# Altium footprint library PowerBank-PCBLIB.PcbLib: 22 footprints (part 1 of 2)
Each footprint in its own frame and in the unit in brackets; x right, y up, seen from the top. Pads: shape width x height; smd on the part's side, far side on the other; paste and mask are expansions set on the pad; w line width, h text height; cw(c..) or ccw(c..) is an arc to the next point about the centre after c.
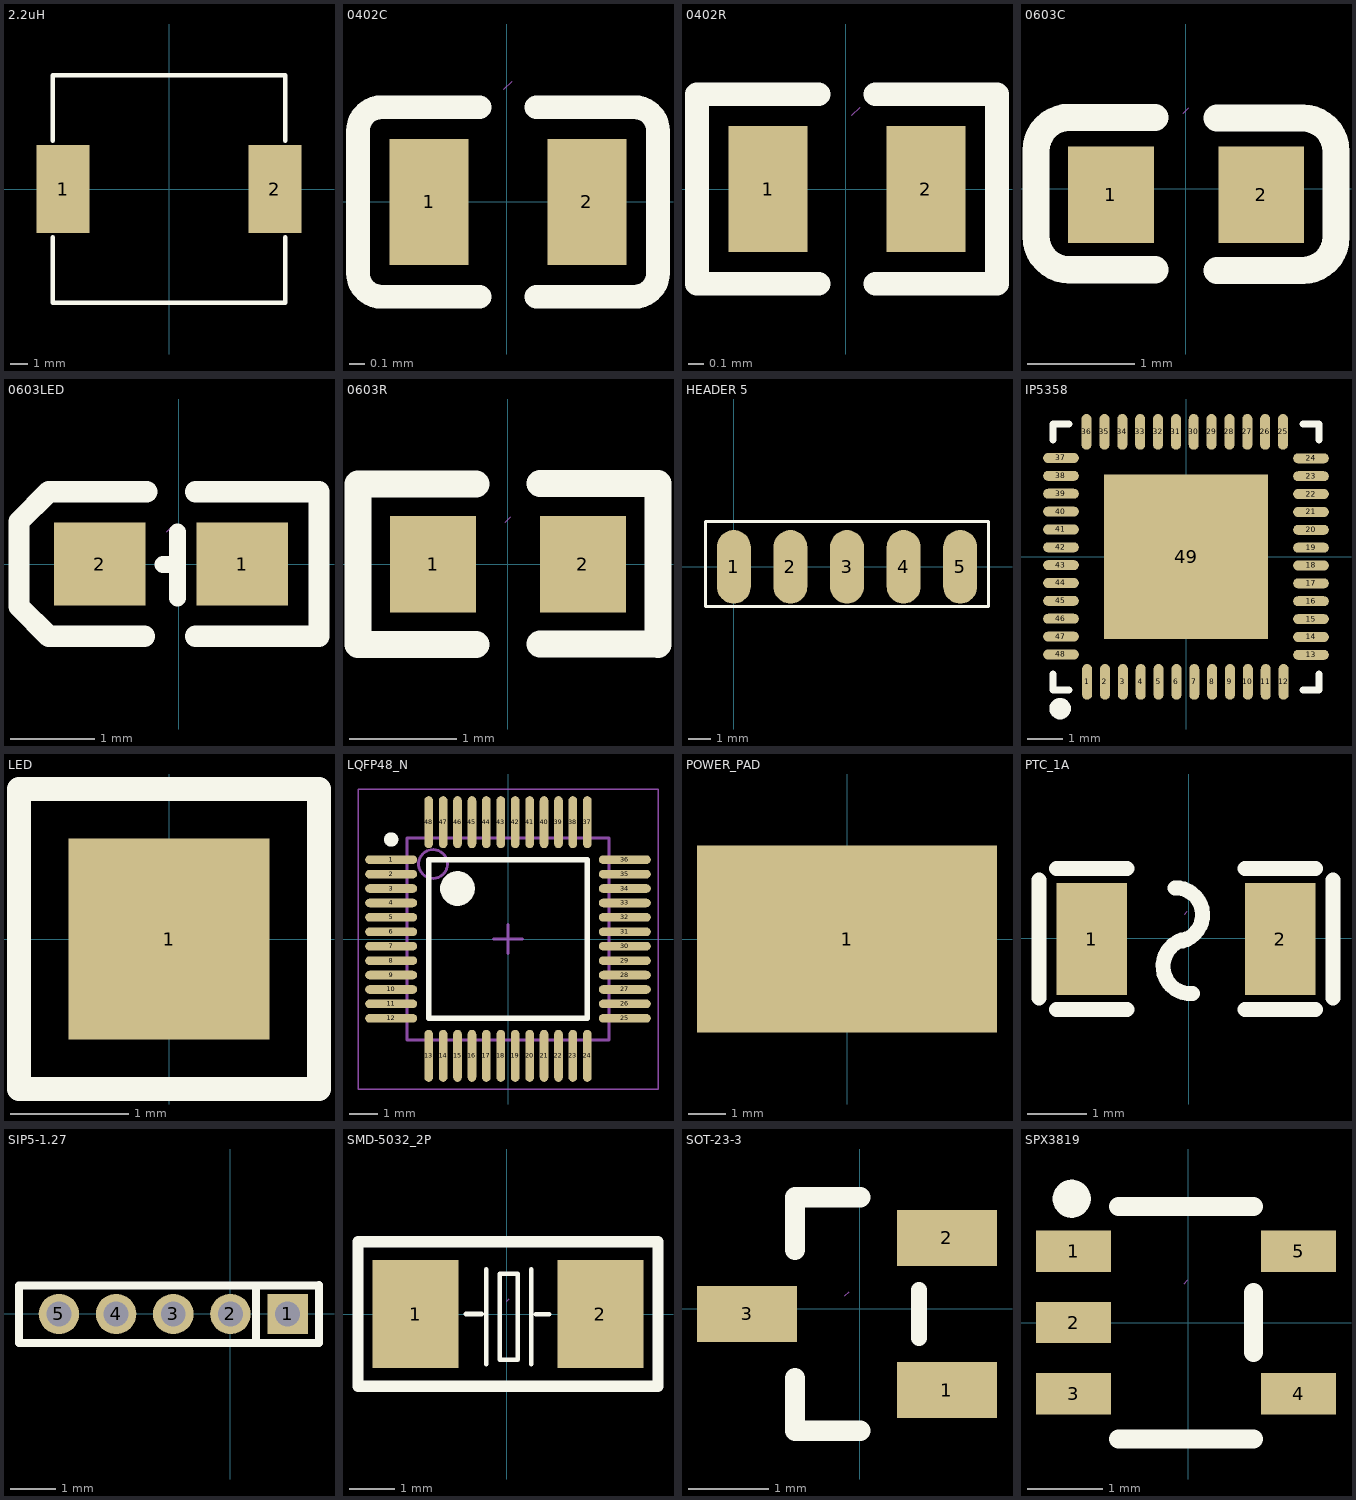
[diagram p0: the footprints below, top view; thin cyan lines are the x and y axes]

## 2.2uH [mm] "SMD"
pads (2):
  rect 3x5 smd: 1(-6,0) 2(6,0)
Top Overlay:
  lines w0.254: -6.6,-2.731 -6.6,-6.45 6.6,-6.45 6.6,-2.731 ; -6.6,2.731 -6.6,6.45 6.6,6.45 6.6,2.731

## 0402C [mm] "0402C"
pads (2):
  rect 0.5x0.8 smd: 1(-0.491,0) 2(0.509,0)
Top Overlay:
  lines w0.15: -0.171,-0.6 -0.791,-0.6 cw(c-0.791,-0.45) -0.941,-0.45 -0.941,-0.4 -0.941,0.4 -0.941,0.45 cw(c-0.791,0.45) -0.791,0.6 -0.171,0.6 ; 0.189,-0.6 0.809,-0.6 ccw(c0.809,-0.45) 0.959,-0.45 0.959,-0.4 0.959,0.4 0.959,0.45 ccw(c0.809,0.45) 0.809,0.6 0.189,0.6
Mechanical 15:
  lines w0.003: -0.016,0.714 0.034,0.764

## 0402R [mm] "0402R"
pads (2):
  rect 0.5x0.8 smd: 1(-0.491,0) 2(0.509,0)
Top Overlay:
  lines w0.15: -0.171,-0.6 -0.941,-0.6 -0.941,0.6 -0.171,0.6 ; 0.189,-0.6 0.959,-0.6 0.959,0.6 0.189,0.6
Mechanical 15:
  lines w0.003: 0.041,0.468 0.091,0.519

## 0603C [mm] "Capasitor 0603"
pads (2):
  rect 0.8x0.9 smd: 1(-0.698,-0.058) 2(0.701,-0.058)
Top Overlay:
  lines w0.254: -0.287,-0.756 -1.087,-0.756 cw(c-1.087,-0.446) -1.397,-0.446 -1.397,0.354 cw(c-1.087,0.354) -1.087,0.663 -0.287,0.663 ; 0.289,-0.762 1.089,-0.762 ccw(c1.089,-0.452) 1.398,-0.452 1.398,0.348 ccw(c1.089,0.348) 1.089,0.658 0.289,0.658
Mechanical 15:
  lines w0.003: -0.025,0.705 0.026,0.755

## 0603LED [mil] "0603LED"
pads (2):
  rect 43x39 smd: 1(30,0) 2(-37,0)
Top Overlay:
  lines w7.99: -7.4,-0.31 -0.5,-0.31 ; -0.5,-16 -0.5,15
  lines w10: -16,-34 -61,-34 -75,-20 -75,20 -61,34 -15,34 ; 8,-34 66,-34 66,34 8,34
Mechanical 15:
  lines w0.1: -5.5,15.25 -3.5,17.25

## 0603R [mm] "RESISTOR"
pads (2):
  rect 0.8x0.9 smd: 1(-0.696,0) 2(0.704,0)
Top Overlay:
  lines w0.254: -1.397,-0.75 -0.296,-0.75 ; -1.397,0.75 -0.296,0.75 ; -1.396,-0.75 -1.396,0.75 ; 0.305,-0.745 1.405,-0.745 ; 0.305,0.755 1.405,0.755 ; 1.405,-0.75 1.405,0.75
Mechanical 15:
  lines w0.003: -0.021,0.393 0.029,0.444

## HEADER 5 [mil]
pads (5):
  oval 60x130 smd: 1(0,0) 2(100,0) 3(200,0) 4(300,0) 5(400,0)
Top Overlay:
  lines w5: -50,-70 -50,-30 -50,80 450,80 450,-70 -50,-70
3D body "1001-5.STEP": height 70, standoff -30, extent -50,-406.22 450,48.11

## IP5358 [mm] "IP5358"
pads (49):
  oval 0.28x1 smd: 1(-2.769,-3.5) 2(-2.268,-3.5) 3(-1.768,-3.5) 4(-1.267,-3.5) 5(-0.767,-3.5) 6(-0.267,-3.5) 7(0.231,-3.5) 8(0.732,-3.5) 9(1.232,-3.5) 10(1.732,-3.5) 11(2.233,-3.5) 12(2.733,-3.5) 25(2.718,3.5) 26(2.217,3.5) 27(1.717,3.5) 28(1.217,3.5) 29(0.716,3.5) 30(0.216,3.5) 31(-0.282,3.5) 32(-0.782,3.5) 33(-1.283,3.5) 34(-1.783,3.5) 35(-2.283,3.5) 36(-2.784,3.5)
  oval 1x0.28 smd: 13(3.5,-2.743) 14(3.5,-2.243) 15(3.5,-1.742) 16(3.5,-1.242) 17(3.5,-0.742) 18(3.5,-0.241) 19(3.5,0.257) 20(3.5,0.757) 21(3.5,1.257) 22(3.5,1.758) 23(3.5,2.258) 24(3.5,2.759) 37(-3.5,2.769) 38(-3.5,2.268) 39(-3.5,1.768) 40(-3.5,1.268) 41(-3.5,0.767) 42(-3.5,0.267) 43(-3.5,-0.231) 44(-3.5,-0.731) 45(-3.5,-1.232) 46(-3.5,-1.732) 47(-3.5,-2.232) 48(-3.5,-2.733)
  rect 4.6x4.6 smd: 49(0,0)
Top Overlay:
  lines w0.2: -3.725,-3.275 -3.725,-3.725 -3.275,-3.725 ; -3.725,3.275 -3.725,3.725 -3.275,3.725 ; 3.275,-3.725 3.725,-3.725 3.725,-3.275 ; 3.275,3.725 3.725,3.725 3.725,3.275
  lines w0.3: -3.526,-4.099 ccw(c-3.524,-4.249) -3.523,-4.099

## LED [mm]
pads (1):
  rect 1.7x1.7 smd: 1(0,0)
Top Overlay:
  lines w0.203: -1.27,-1.27 1.27,-1.27 1.27,-0.635 1.27,1.27 -1.27,1.27 -1.27,-1.27

## LQFP48_N [mm] "Thin QFP, 48-Leads, Body 7x7mm, Pitch 0.5mm, IPC Medium Density"
height 1.6
pads (48):
  oval 1.8x0.3 smd: 1(-4.05,2.75) 2(-4.05,2.25) 3(-4.05,1.75) 4(-4.05,1.25) 5(-4.05,0.75) 6(-4.05,0.25) 7(-4.05,-0.25) 8(-4.05,-0.75) 9(-4.05,-1.25) 10(-4.05,-1.75) 11(-4.05,-2.25) 12(-4.05,-2.75) 25(4.05,-2.75) 26(4.05,-2.25) 27(4.05,-1.75) 28(4.05,-1.25) 29(4.05,-0.75) 30(4.05,-0.25) 31(4.05,0.25) 32(4.05,0.75) 33(4.05,1.25) 34(4.05,1.75) 35(4.05,2.25) 36(4.05,2.75)
  oval 0.3x1.8 smd: 13(-2.75,-4.05) 14(-2.25,-4.05) 15(-1.75,-4.05) 16(-1.25,-4.05) 17(-0.75,-4.05) 18(-0.25,-4.05) 19(0.25,-4.05) 20(0.75,-4.05) 21(1.25,-4.05) 22(1.75,-4.05) 23(2.25,-4.05) 24(2.75,-4.05) 37(2.75,4.05) 38(2.25,4.05) 39(1.75,4.05) 40(1.25,4.05) 41(0.75,4.05) 42(0.25,4.05) 43(-0.25,4.05) 44(-0.75,4.05) 45(-1.25,4.05) 46(-1.75,4.05) 47(-2.25,4.05) 48(-2.75,4.05)
Top Overlay:
  circle w0.6: c-1.75,1.75 r0.3
  circle w0.25: c-4.05,3.45 r0.125
  lines w0.2: -2.75,-2.75 2.75,-2.75 2.75,2.75 -2.75,2.75 -2.75,-2.75
Mechanical 13:
  circle w0.1: c-2.6,2.6 r0.5
  lines w0.1: -3.5,-3.5 3.5,-3.5 3.5,3.5 -3.5,3.5 -3.5,-3.5
Mechanical 15:
  lines w0.05: -5.2,-5.2 5.2,-5.2 5.2,5.2 -5.2,5.2 -5.2,-5.2
  lines w0.1: -0.5,0 0.5,0 ; 0,-0.5 0,0.5
3D body: height 1.6, standoff 0, extent -3.5,-3.5 3.5,3.5

## POWER_PAD [mm] "POWER_PAD"
pads (1):
  rect 8x5 smd: 1(0,0)

## PTC_1A [mm] "PTC_1A"
pads (2):
  rect 1.2x1.9 smd: 1(-1.645,-0.012) 2(1.555,-0.012)
Top Overlay:
  lines w0.254: -2.545,-1.012 -2.545,0.988 ; -2.245,-1.212 -1.045,-1.212 ; -2.245,1.188 -1.045,1.188 ; -0.235,0.858 cw(c-0.223,0.399) -0.182,-0.059 ; -0.045,-0.012 ccw(c0.034,-0.475) 0.065,-0.942 ; 0.955,-1.212 2.155,-1.212 ; 0.955,1.188 2.155,1.188 ; 2.455,-1.012 2.455,0.988
Mechanical 15:
  lines w0.003: -0.07,0.41 -0.02,0.461

## SIP5-1.27 [mm]
pads (5):
  rect 0.9x0.9 hole 0.55: 1(1.27,0)
  round 0.9 hole 0.55: 2(0,0) 3(-1.27,0) 4(-2.54,0) 5(-3.81,0)
Top Overlay:
  lines w0.178: 0.57,-0.64 0.57,0.6 ; 1.97,0.508 1.97,0.63 -4.699,0.63 -4.699,-0.64 1.97,-0.64 1.97,0.64

## SMD-5032_2P [mm] "8M XTAL"
pads (2):
  rect 1.9x2.4 smd: 1(-2.027,0) 2(2.073,0)
Top Overlay:
  lines w0.1: -0.917,0 -0.561,0 ; -0.46,-1.109 -0.46,0.991 ; 0.54,-1.109 0.54,0.991 ; 0.64,-0.009 0.94,-0.009 ; -0.16,-1.009 0.24,-1.009 0.24,0.89 -0.16,0.89 -0.16,-1.009
  lines w0.254: -3.302,-1.6 -3.302,-0.7 -3.302,0.7 -3.302,1.6 3.348,1.6 3.348,0.7 3.348,-0.7 3.348,-1.6 -3.302,-1.6
Mechanical 15:
  lines w0.003: -0.002,0.286 0.048,0.337

## SOT-23-3 [mm] "S9013_NPN"
pads (3):
  rect 1.25x0.7 smd: 1(1.092,-1.014) 2(1.092,0.886) 3(-1.407,-0.064)
Top Overlay:
  lines w0.2: 0.743,-0.364 0.743,0.236
  lines w0.254: -0.807,-0.864 -0.807,-1.524 0.008,-1.524 ; 0.008,1.396 -0.807,1.396 ; -0.807,0.736 -0.807,1.396 ; -0.807,0.736 -0.807,1.396 ; -0.807,0.736 -0.807,1.396
Mechanical 15:
  lines w0.003: -0.183,0.165 -0.132,0.216

## SPX3819 [mm] "SPX3819_5VTO3V3_LDO"
pads (5):
  rect 1x0.55 smd: 1(-1.532,0.95) 2(-1.532,0) 3(-1.532,-0.95) 4(1.468,-0.95) 5(1.468,0.95)
Top Overlay:
  circle w0.254: c-1.556,1.651 r0.127
  lines w0.254: -0.932,-1.55 0.868,-1.55 ; -0.932,1.55 0.868,1.55 ; 0.868,-0.4 0.868,0.4
Mechanical 15:
  lines w0.003: -0.057,0.52 -0.007,0.571